# Altium schematic symbol library LC86LICMD.SchLib: 1 symbol
Pins are listed as number, name and electrical type; pins without a type are passive.

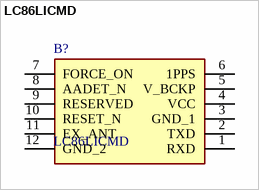
[diagram p0: symbol LC86LICMD]

## LC86LICMD
designator B?
Quectel Wireless Solutions; Geometry.Height: 7.05mm; Mouser Part Number: 277-LC86LICMD; Mouser Price/Stock: https://www.mouser.co.uk/ProductDetail/Quectel/LC86LICMD?qs=iLbezkQI%252BsiFPFQjIwBL1Q%3D%3D; Manufacturer_Name: Quectel; Manufacturer_Part_Number: LC86LICMD; Datasheet Link: https://cdn.sos.sk/productdata/39/c0/eb20bda6/lc86l.pdf
footprint LC86LICMD
pins: 1 RXD, 2 TXD, 3 GND_1, 4 VCC, 5 V_BCKP, 6 1PPS, 7 FORCE_ON, 8 AADET_N, 9 RESERVED, 10 RESET_N, 11 EX_ANT, 12 GND_2